# Altium schematic symbol library CON_DIVERSOS.SchLib: 77 symbols (part 1 of 4)
Pins are listed as number, name and electrical type; pins without a type are passive.

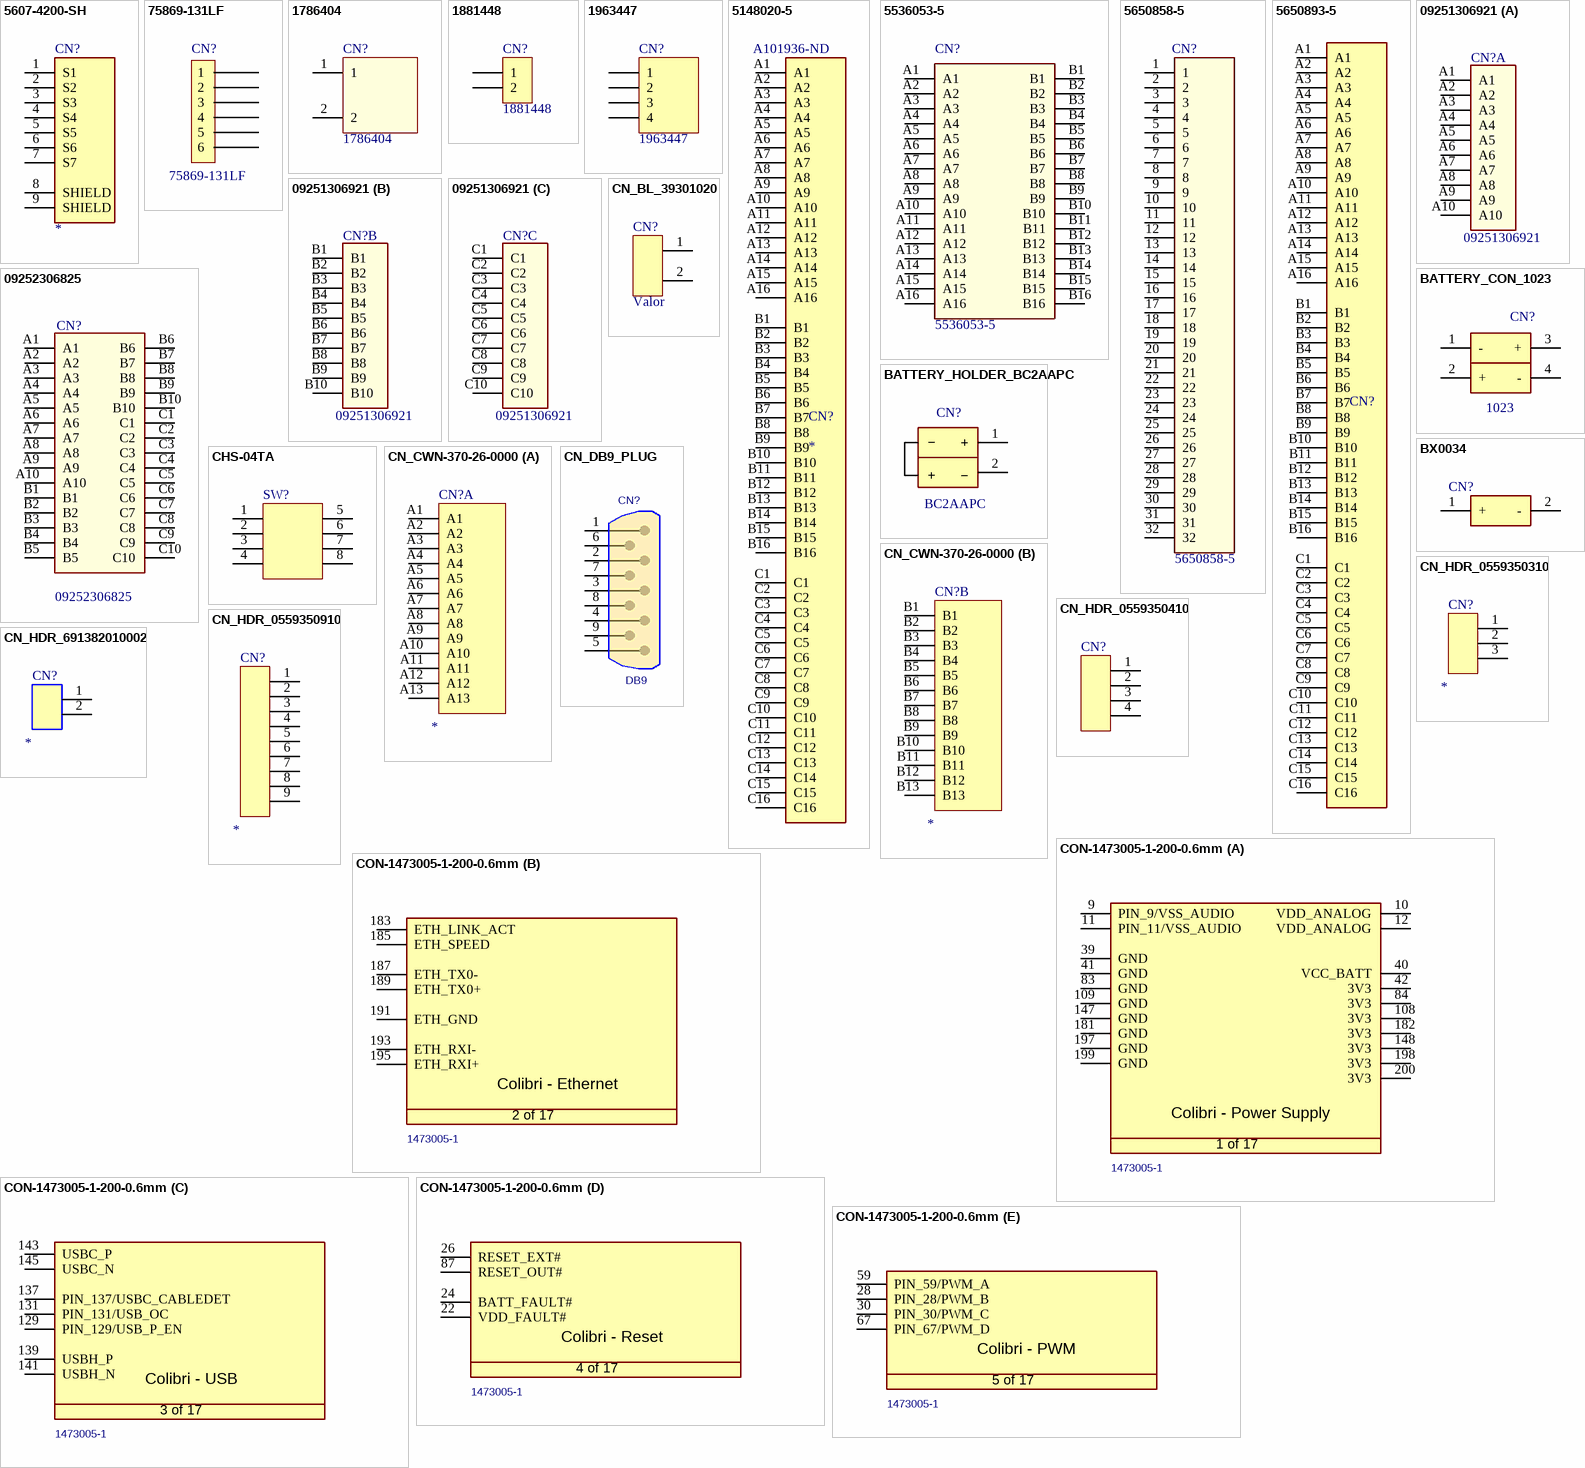
[diagram p0: symbols 5607-4200-SH to CON-1473005-1-200-0.6mm]

## 5607-4200-SH
designator CN?
7 Position SATA Plug Connector Solder Surface Mount, Right Angle; MP: 5607-4200-SH; MF: 3M; Gender: Male; Connector Type: Plug,SATA; Number of Ports: 1; Current Rating: 1.5A; Number of Positions: 7; Insulation Resistance: 1GR; Pitch: 1.27mm; Package: None; Availability: Unavailable; Price: None; Value: *; SnapEDA_Link: https://www.snapeda.com/parts/5607-4200-SH/3M%20%28TC%29/view-part/553032/?ref=snap; Supplier 1: Digi-Key; Supplier Part Number 1: 3M5561-ND; Manufacturer: 3M; Manufacturer Part Number: 5607-4200-SH; Stock 1: 7259; Pricing 1: 1=0,95000, 10=0,83600, 25=0,78720, 50=0,75440, 100=0,72160, 250=0,65600, 500=0,59040, 1000=0,52480, 2500=0,47560 (USD); RoHS: Yes; Mount: Surface Mount; Housing Material: Thermoplastic; Contact Material: Copper Alloy; Contact Plating: Gold; Housing Color: Black; Color: Black; Number of Terminals: 7; Min Operating Temperature: -40°C; Max Operating Temperature: 85°C; Orientation: Right Angle; Termination: Solder; Package Quantity: 3000; Packaging: Tray; Number of Contacts: 7; Number of Rows: 1; Max Current Rating: 1.5A; Length: 17.46mm; Depth: 11.5mm; REACH SVHC: Unknown; Flammability Rating: UL94 V-0; Lead Free: Lead Free; ComponentLink1URL: https://datasheet.ciiva.com/1100/cd2108-1100208.pdf?src-supplier=Newark; ComponentLink1Description: https://datasheet.ciiva.com/1100/cd2108-1100208.pdf?src-supplier=Newark; ComponentLink2URL: https://datasheet.ciiva.com/3955/mediawebserver5-3955063.pdf?src-supplier=Arrow; ComponentLink2Description: https://datasheet.ciiva.com/3955/mediawebserver5-3955063.pdf?src-supplier=Arrow; ComponentLink3URL: https://datasheet.ciiva.com/16971/70253724-16971589.pdf?src-supplier=Allied+Electronics; ComponentLink3Description: https://datasheet.ciiva.com/16971/70253724-16971589.pdf?src-supplier=Allied+Electronics
footprint 3M_5607-4200-SH
pins: 1 S1, 2 S2, 3 S3, 4 S4, 5 S5, 6 S6, 7 S7, 8 SHIELD, 9 SHIELD

## 75869-131LF
designator CN?  value 75869-131LF
CONN HEADER VERT 6POS 2.54MM; Manufacturer: Amphenol FCI; Fabricante: Amphenol ICC (FCI); Number of Contacts: 6; Max Current Rating: 2A; Current Rating: 3A; Voltage Rating: 500V; Connector Type: Male Pin; Gender: Male; Contact Post Length: 3.05mm; Row Spacing: 0.1inch; ComponentLink1Description: LOJA; ComponentLink1URL: https://www.digikey.com/products/en?keywords=75869-131LF; ComponentLink2Description: DATASHEET; ComponentLink2URL: https://cdn.amphenol-icc.com/media/wysiwyg/files/drawing/75869.pdf; Footprint: Through Hole; MPN: 75869-131LF; Supplier 1: Digi-Key; Supplier Part Number 1: 609-2845-ND; Manufacturer Part Number: 75869-131LF; Stock 1: 14575; Pricing 1: 1=0,77000, 10=0,71800, 100=0,55040, 500=0,47860, 1000=0,39485, 5000=0,34699, 10000=0,32306 (USD); RoHS: Yes; Mount: Through Hole; Contact Plating: Gold,GXT; Color: Blue; Housing Color: Blue; Housing Material: Thermoplastic; Contact Material: Bronze,Copper Alloy; Min Operating Temperature: -65°C; Max Operating Temperature: 125°C; Termination: Solder; Number of Rows: 2; Contact Gender: Male; Package Quantity: 100; Orientation: Straight; Number of Positions: 6; Max Voltage Rating (AC): 500V; Packaging: Rail/Tube; Length: 14.83mm; Height: 27.2mm; Pitch: 2.54mm; Contact Mating Length: 0.236inch; Depth: 9.55mm; Radiation Hardening: No; Lead Free: Lead Free; REACH SVHC: No SVHC; ComponentLink3URL: https://datasheet.ciiva.com/11748/0900766b80d79252-11748151.pdf?src-supplier=RSComponents; ComponentLink3Description: https://datasheet.ciiva.com/11748/0900766b80d79252-11748151.pdf?src-supplier=RSComponents; ComponentLink4URL: https://datasheet.ciiva.com/22644/1688107-22644798.pdf?src-supplier=Element14; ComponentLink4Description: https://datasheet.ciiva.com/22644/1688107-22644798.pdf?src-supplier=Element14; ComponentLink5URL: https://datasheet.ciiva.com/16656/75869-16656678.pdf?src-supplier=Avnet+Europe; ComponentLink5Description: https://datasheet.ciiva.com/16656/75869-16656678.pdf?src-supplier=Avnet+Europe; ComponentLink6URL: https://datasheet.ciiva.com/5722/75869-5722919.pdf?src-supplier=Farnell; ComponentLink6Description: https://datasheet.ciiva.com/5722/75869-5722919.pdf?src-supplier=Farnell; ComponentLink7URL: https://datasheet.ciiva.com/9465/75869-9465975.pdf?src-supplier=Avnet; ComponentLink7Description: https://datasheet.ciiva.com/9465/75869-9465975.pdf?src-supplier=Avnet; ComponentLink8URL: https://datasheet.ciiva.com/719/75869-719692.pdf?src-supplier=Digi-Key; ComponentLink8Description: https://datasheet.ciiva.com/719/75869-719692.pdf?src-supplier=Digi-Key; ComponentLink9URL: https://datasheet.ciiva.com/8046/75869-8046653.pdf?src-supplier=Element14; ComponentLink9Description: https://datasheet.ciiva.com/8046/75869-8046653.pdf?src-supplier=Element14
footprint 75869-131LF
pins: 1, 2, 3, 4, 5, 6

## 1786404
designator CN?
2 Position Terminal Block Header, Female Sockets 0.200" (5.08mm) 90°, Right Angle  Through Hole; Manufacturer 1: Phoenix Contact; Description 1: Pluggable Terminal Blocks 2 Pos 5.08mm pitch Thru Hole Invert Hdr; Number of Positions Per Level: 2; Number of Levels: 1; Current: 10A; Voltage: 300V; Current Rating: 12A; Voltage Rating: 320V; Connector Type: Socket; Approvals: UL,CSA,VDE,CB; Supplier 1: Digi-Key; Manufacturer Part Number 1: 1786404; Stock 1: 482; Pricing 1: 1=2,22000, 10=2,15700, 50=2,01600, 100=1,85470, 250=1,71360, 500=1,63298, 1000=1,53217 (USD); RoHS: Yes; Mount: Through Hole; Weight: 5.78493oz; Contact Material: Tin; Color: Green; Contact Plating: Tin; Housing Material: Polyamide; Housing Color: Green; Package Quantity: 50; Packaging: Bulk; Termination: Solder; Number of Rows: 1; Number of Poles: 2; Number of Positions: 2; Number of Contacts: 2; Max Current Rating: 12A; Orientation: Right Angle; Type: Integrated Circuit (IC); Length: 12.16mm; Height: 13.7mm; Pitch: 5.08mm; Width: 19mm; Depth: 19mm; Flammability Rating: UL94 V-0; Lead Free: Lead Free; ComponentLink1URL: https://datasheet.ciiva.com/16096/1786404-16096800.pdf?src-supplier=Onlinecomponents.com; ComponentLink1Description: https://datasheet.ciiva.com/16096/1786404-16096800.pdf?src-supplier=Onlinecomponents.com; ComponentLink2URL: https://datasheet.ciiva.com/11748/0900766b800b6097-11748807.pdf?src-supplier=RSComponents; ComponentLink2Description: https://datasheet.ciiva.com/11748/0900766b800b6097-11748807.pdf?src-supplier=RSComponents; ComponentLink3URL: https://datasheet.ciiva.com/6747/1786404-6747449.pdf?src-supplier=Digi-Key; ComponentLink3Description: https://datasheet.ciiva.com/6747/1786404-6747449.pdf?src-supplier=Digi-Key; ComponentLink4URL: https://datasheet.ciiva.com/29209/567660-da-01-de-grundgehaeuse-1786404-50-st-29209089.pdf?src-supplier=Conrad; ComponentLink4Description: https://datasheet.ciiva.com/29209/567660-da-01-de-grundgehaeuse-1786404-50-st-29209089.pdf?src-supplier=Conrad; Supplier Part Number 1: 277-5986-ND; Value: 1786404
pins: 1, 2

## 1881448
designator CN?
TERM BLOCK HDR 2POS 90DEG 2.5MM; Manufacturer: Phoenix Contact; Connector Type: Plug; Number of Positions: 2; Current Rating: 4A; Number of Levels: 1; Voltage: 125V; Voltage Rating: 32V; Wire Gauge (Max): 20AWG; Wire Gauge (Min): 26AWG; Approvals: UL,VDE,EN; ComponentLink1Description: datasheet; ComponentLink1URL: https://www.digikey.com/htmldatasheets/production/170627/0/0/1/1881448.html; ComponentLink2Description: Link with best prices; ComponentLink2URL: https://www.findchips.com/search/1881448; Supplier 1: Digi-Key; Supplier Part Number 1: 277-1441-ND; Manufacturer Part Number: 1881448; Stock 1: 647; Pricing 1: 1=0,97000, 10=0,94400, 50=0,88200, 100=0,81140, 250=0,74972, 500=0,71442, 1000=0,67032 (USD); RoHS: Yes; Mount: Through Hole; Weight: 0.017637oz; Contact Material: Tin; Contact Plating: Tin; Housing Color: Green; Housing Material: Polyamide; Color: Green; Insulation Material: Nylon; Termination: Solder; Package Quantity: 50; Packaging: Bulk; Orientation: Right Angle; Number of Positions Per Level: 2; Current: 4A; Number of Contacts: 2; Number of Poles: 2; Number of Rows: 1; Max Current Rating: 4A; Contact Gender: Male; Length: 6.9mm; Height: 8.1mm; Width: 11.9mm; Pitch: 2.5mm; Depth: 10.1mm; Lead Free: Lead Free; Flammability Rating: UL94 V-0; ComponentLink3URL: https://datasheet.ciiva.com/11747/0900766b800330ce-11747235.pdf?src-supplier=RSComponents; ComponentLink3Description: https://datasheet.ciiva.com/11747/0900766b800330ce-11747235.pdf?src-supplier=RSComponents; ComponentLink4URL: https://datasheet.ciiva.com/796/1881448-796679.pdf?src-supplier=Digi-Key; ComponentLink4Description: https://datasheet.ciiva.com/796/1881448-796679.pdf?src-supplier=Digi-Key; ComponentLink5URL: https://datasheet.ciiva.com/16097/1881448-16097305.pdf?src-supplier=Onlinecomponents.com; ComponentLink5Description: https://datasheet.ciiva.com/16097/1881448-16097305.pdf?src-supplier=Onlinecomponents.com; ComponentLink6URL: https://datasheet.ciiva.com/29210/569293-da-01-de-grundgehaeuse-1881448-50-st-29210515.pdf?src-supplier=Conrad; ComponentLink6Description: https://datasheet.ciiva.com/29210/569293-da-01-de-grundgehaeuse-1881448-50-st-29210515.pdf?src-supplier=Conrad
footprint 1881448 (TERM BLOCK HDR 2POS 90DEG 2.5MM)
pins: 1, 2

## 1963447
designator CN?
TERM BLOCK HDR 4POS 90DEG 2.5MM; Manufacturer: Phoenix Contact; Number of Contacts: 4; Connector Type: Plug; Current Rating: 4A; Voltage Rating: 32V; Voltage: 125V; Number of Levels: 1; ComponentLink1Description: Datasheet; ComponentLink1URL: https://www.digikey.com/htmldatasheets/production/1675892/0/0/1/micro-combicon-headers.html; ComponentLink2Description: link with best prices; ComponentLink2URL: https://www.findchips.com/search/1963447; Supplier 1: Digi-Key; Supplier Part Number 1: 277-14472-ND; Manufacturer Part Number: 1963447; Stock 1: 379; Pricing 1: 1=1,80000, 10=1,75400, 50=1,63900, 100=1,50790, 250=1,39316, 500=1,32760, 1000=1,24564 (USD); RoHS: Yes; Mount: Through Hole; Weight: 0.123812oz; Contact Plating: Tin; Contact Material: Tin; Color: Black; Housing Color: Black; Housing Material: Polyamide; Termination: Solder; Package Quantity: 50; Current: 4A; Number of Rows: 1; Max Current Rating: 4A; Orientation: Right Angle; Packaging: Bulk; Number of Positions: 4; Number of Positions Per Level: 4; Length: 11.9mm; Height: 11.9mm; Pitch: 2.5mm; Depth: 10.1mm; Width: 11.9mm; Flammability Rating: UL94 V-0; ComponentLink3URL: https://datasheet.ciiva.com/29208/566945-da-01-de-grundgehaeuse-1963447-50-st-29208218.pdf?src-supplier=Conrad; ComponentLink3Description: https://datasheet.ciiva.com/29208/566945-da-01-de-grundgehaeuse-1963447-50-st-29208218.pdf?src-supplier=Conrad; ComponentLink4URL: https://datasheet.ciiva.com/29681/microcombiconheaders-29681992.pdf?src-supplier=Digi-Key; ComponentLink4Description: https://datasheet.ciiva.com/29681/microcombiconheaders-29681992.pdf?src-supplier=Digi-Key
footprint 1963447 (TERM BLOCK HDR 4POS 90DEG 2.5MM)
pins: 1, 2, 3, 4

## 5148020-5
designator CN?  Supplier Part Number 1: A101936-ND  (hidden comment: 5148020-5)
PIN EURO C/2 48 POS 104; Number_of_Positions: 48; Product_Type: Connector; Centerline_Pitch: 2.54 mm[.1 in]; MF: TE Connectivity; Connector System: Board-to-Board; Connector Type: Plug,Connector,Pin; Make First / Break Last: No; Mating Alignment: Yes (With); Mating Retention: No (Without); PCB Mount Retention: With; PCB Mounting Orientation: Right Angle; Shielding: Unshielded; Gender: Male; Max Voltage Rating (AC): 250V; Row Spacing: 2.54mm; PCB Thickness: 5.41mm; Tail Length: 3mm; Contact Post Length: 2.65mm; Digi-Key_Part_Number: A101936-ND; TE_purchase_URL: https://www.te.com/usa-en/product-5148020-5.html?te_bu=Cor&te_type=disp&te_campaign=seda_glo_cor-seda-global-disp-prtnr-fy19-seda-model-bom-cta_sma-317_1&elqCampaignId=32493; Value: *; MP: 5148020-5; Package: None; SnapEDA_Link: https://www.snapeda.com/parts/5148020-5/TE%20Connectivity%20AMP%20Connectors/view-part/489557/?ref=snap; EU_RoHS_Compliance: Compliant; Digi-Key_Purchase_URL: https://www.digikey.com/product-detail/en/te-connectivity-amp-connectors/5148020-5/A101936-ND/2268186?utm_source=snapeda&utm_medium=aggregator&utm_campaign=symbol; Supplier 1: Digi-Key; Manufacturer: TE Connectivity; Manufacturer Part Number: 5148020-5; RoHS: Yes; Category: DIN 41612 Connectors; Pricing 1: 1=8,38000, 10=8,03000, 25=7,33200, 50=6,98280, 100=6,63360, 250=5,93536, 500=5,58622, 1000=4,88795, 2500=4,64355 (USD); Mount: Through Hole; Insulation Material: Polymer; Housing Material: Polymer; Contact Material: Copper Alloy; Contact Plating: Tin; Housing Color: Grey; Min Operating Temperature: -55°C; Max Operating Temperature: 125°C; Number of Rows: 3; Packaging: Tray; Number of Positions: 48; Termination: Solder; Number of Signal Positions: 48; PCB Mount Alignment: Yes (With); Package Quantity: 30; Orientation: Right Angle; Number of Contacts: 48; Length: 53.34mm; Height: 12.62mm; Pitch: 2.54mm; Insulation Diameter: 2.54mm; Depth: 12.62mm; Flammability Rating: UL94 V-0; ELV: Compliant; ComponentLink1URL: https://datasheet.ciiva.com/377/eng-cd-5148020-o1-377803.pdf?src-supplier=Digi-Key; ComponentLink1Description: https://datasheet.ciiva.com/377/eng-cd-5148020-o1-377803.pdf?src-supplier=Digi-Key; ComponentLink2URL: https://datasheet.ciiva.com/1436/1652762-1436912.pdf?src-supplier=Element14; ComponentLink2Description: https://datasheet.ciiva.com/1436/1652762-1436912.pdf?src-supplier=Element14; ComponentLink3URL: https://datasheet.ciiva.com/1446/1652762-1446112.pdf?src-supplier=Farnell; ComponentLink3Description: https://datasheet.ciiva.com/1446/1652762-1446112.pdf?src-supplier=Farnell; Comment_1: *
footprint 5148020-5 (Conn DIN 41612 M 48 POS 2.54mm Solder RA Thru-Hole Tray)
pins: A1, A2, A3, A4, A5, A6, A7, A8, A9, A10, A11, A12, A13, A14, A15, A16, B1, B2, B3, B4, B5, B6, B7, B8, B9, B10, B11, B12, B13, B14, B15, B16, C1, C2, C3, C4, C5, C6, C7, C8, C9, C10, C11, C12, C13, C14, C15, C16

## 5536053-5
designator CN?
32 Position Din Connector Plug, Male Pins Gold Through Hole, Right Angle; Manufacturer: TE Connectivity; FABRICANTE: TE Connectivity AMP Connectors; Underplate Material: Nickel; Number of Contacts: 32; Connector Type: Plug,Connector,Pin; Max Voltage Rating (AC): 250V; Connector System: Board-to-Board; Mating Alignment: Yes (With); Mating Retention: No (Without); Number of Columns: 16; PCB Mount Retention: With; Current Rating: 1.5A; Contact Resistance: 15mR; Plating Thickness: 0.76um; Make First / Break Last: No; Shielding: Unshielded; Max Current Rating: 1A; Pitch: 2.54mm; Tail Length: 2.64mm; Row Spacing: 0.1inch; PCB Thickness: 0.062inch; Value: 536053-5; ComponentLink1Description: LOJA; ComponentLink1URL: https://www.digikey.com/products/en?mpart=536053-5&v=17; ComponentLink2Description: DATASHEET; ComponentLink2URL: https://www.te.com/commerce/DocumentDelivery/DDEController?Action=srchrtrv&DocNm=536053&DocType=Customer+Drawing&DocLang=English; MPN: 536053-5; FOOTPRINT: 536053-5; Supplier 1: Digi-Key; Supplier Part Number 1: A32808-ND; Manufacturer Part Number: 5536053-5; Stock 1: 543; Pricing 1: 1=6,12000, 10=5,86000, 25=5,35080, 50=5,09600, 100=4,84130, 250=4,33168, 500=4,07686, 1000=3,56726, 2500=3,38889 (USD); RoHS: Yes; Mount: Through Hole,Surface Mount; Housing Material: Polymer; Insulation Material: Polymer; Contact Material: Copper Alloy; Contact Plating: Gold,Tin; Housing Color: Grey; Min Operating Temperature: -55°C; Max Operating Temperature: 125°C; Termination: Solder; Number of Rows: 2; Number of Positions: 32; Gender: Male; Package Quantity: 40; Packaging: Tray; Orientation: Right Angle; PCB Mount Alignment: No (Without); PCB Mounting Orientation: Right Angle; Sealable: No (Without); Max Voltage Rating (DC): 250V; Voltage Rating: 250V; Length: 2.1inch; Height: 0.497inch; Width: 8.56mm; Depth: 12.65mm; Contact Mating Length: 0.164inch; Flammability Rating: UL94 V-0; REACH SVHC: Unknown; ComponentLink3URL: https://datasheet.ciiva.com/5657/ng-cd-5536053-o1-72018-5657940.pdf?src-supplier=Mouser; ComponentLink3Description: https://datasheet.ciiva.com/5657/ng-cd-5536053-o1-72018-5657940.pdf?src-supplier=Mouser; ComponentLink4URL: https://datasheet.ciiva.com/1482/1649872-1482054.pdf?src-supplier=Newark; ComponentLink4Description: https://datasheet.ciiva.com/1482/1649872-1482054.pdf?src-supplier=Newark; ComponentLink5URL: https://datasheet.ciiva.com/377/eng-cd-5536053-o1-377639.pdf?src-supplier=Digi-Key; ComponentLink5Description: https://datasheet.ciiva.com/377/eng-cd-5536053-o1-377639.pdf?src-supplier=Digi-Key; ComponentLink6URL: https://datasheet.ciiva.com/29702/1974528-29702908.pdf?src-supplier=Jameco; ComponentLink6Description: https://datasheet.ciiva.com/29702/1974528-29702908.pdf?src-supplier=Jameco; ComponentLink7URL: https://datasheet.ciiva.com/30057/55360535-30057548.pdf?src-supplier=Onlinecomponents.com; ComponentLink7Description: https://datasheet.ciiva.com/30057/55360535-30057548.pdf?src-supplier=Onlinecomponents.com; ComponentLink8URL: https://datasheet.ciiva.com/15180/getdatasheetpartid-87158-15180412.pdf?src-supplier=Verical; ComponentLink8Description: https://datasheet.ciiva.com/15180/getdatasheetpartid-87158-15180412.pdf?src-supplier=Verical
footprint 5536053-5 (CONN DIN PLUG 32POS PCB RA GOLD)
pins: A1, A2, A3, A4, A5, A6, A7, A8, A9, A10, A11, A12, A13, A14, A15, A16, B1, B2, B3, B4, B5, B6, B7, B8, B9, B10, B11, B12, B13, B14, B15, B16

## 5650858-5
designator CN?
32 Position Din Connector Receptacle, Female Sockets Gold Through Hole; Manufacturer: TE Connectivity; FABRICANTE: TE Connectivity AMP Connectors; Underplate Material: Nickel; Number of Contacts: 32; Connector System: Board-to-Board; Mating Alignment: Yes (With); Mating Retention: No (Without); Number of Columns: 16; PCB Mount Retention: Without; PCB Mounting Orientation: Vertical; Contact Current Rating: 1.5A; Connector Type: Receptacle,Connector,Socket; Contact Resistance: 15mR; Max Voltage Rating (AC): 250V; Pitch: 2.54mm; Tail Length: 0.18inch; PCB Thickness: 0.062inch; Row Spacing: 0.1inch; Value: 5650858-5; MPN: 5650858-5; FOOTPRINT: 5650858-5; ComponentLink1Description: LOJA; ComponentLink1URL: https://www.digikey.com/product-detail/en/te-connectivity-amp-connectors/5650858-5/A32829-ND/1091289; ComponentLink2Description: DATASHEET; ComponentLink2URL: https://www.te.com/commerce/DocumentDelivery/DDEController?Action=srchrtrv&DocNm=5650858&DocType=Customer+Drawing&DocLang=English; Supplier 1: Digi-Key; Supplier Part Number 1: A32829-ND; Manufacturer Part Number: 5650858-5; Stock 1: 97; Pricing 1: 1=5,23000, 10=5,01700, 25=4,59920, 50=4,39020, 100=4,18120, 250=3,65852, 500=3,55398, 1000=3,03134, 2500=2,82228 (USD); RoHS: Yes; Mount: Through Hole; Insulation Material: Polymer; Housing Material: Polymer; Contact Material: Copper Alloy; Contact Plating: Gold,Tin; Housing Color: Grey; Color: Grey; Min Operating Temperature: -67°C; Max Operating Temperature: 221°C; Termination: Solder; Number of Rows: 2; PCB Mount Alignment: No (Without); Sealable: No (Without); Number of Positions: 32; Package Quantity: 40; Packaging: Tray; Gender: Receptacle; Orientation: Straight; Voltage Rating (DC): 250V; Max Voltage Rating (DC): 250V; Current Rating: 1.5A; Voltage Rating: 250V; Length: 2.1inch; Height: 11.5mm; Width: 0.317inch; Radiation Hardening: No; Flammability Rating: UL94 V-0; ELV: Compliant; Lead Free: Lead Free; REACH SVHC: Unknown; ComponentLink3URL: https://datasheet.ciiva.com/377/eng-cd-5650858-o-377601.pdf?src-supplier=Digi-Key; ComponentLink3Description: https://datasheet.ciiva.com/377/eng-cd-5650858-o-377601.pdf?src-supplier=Digi-Key; ComponentLink4URL: https://datasheet.ciiva.com/5658/ng-cd-5650858-o-72337-5658073.pdf?src-supplier=Mouser; ComponentLink4Description: https://datasheet.ciiva.com/5658/ng-cd-5650858-o-72337-5658073.pdf?src-supplier=Mouser; ComponentLink5URL: https://datasheet.ciiva.com/1482/1649952-1482076.pdf?src-supplier=Newark; ComponentLink5Description: https://datasheet.ciiva.com/1482/1649952-1482076.pdf?src-supplier=Newark; ComponentLink6URL: https://datasheet.ciiva.com/30062/56508585-30062237.pdf?src-supplier=Onlinecomponents.com; ComponentLink6Description: https://datasheet.ciiva.com/30062/56508585-30062237.pdf?src-supplier=Onlinecomponents.com; ComponentLink7URL: https://datasheet.ciiva.com/1437/1661275-1437012.pdf?src-supplier=Element14; ComponentLink7Description: https://datasheet.ciiva.com/1437/1661275-1437012.pdf?src-supplier=Element14; ComponentLink8URL: https://datasheet.ciiva.com/16398/eng-cd-5650858-o-16398391.pdf?src-supplier=Future+Electronics; ComponentLink8Description: https://datasheet.ciiva.com/16398/eng-cd-5650858-o-16398391.pdf?src-supplier=Future+Electronics
footprint *TE_5650858-5
pins: 1, 2, 3, 4, 5, 6, 7, 8, 9, 10, 11, 12, 13, 14, 15, 16, 17, 18, 19, 20, 21, 22, 23, 24, 25, 26, 27, 28, 29, 30, 31, 32

## 5650893-5
designator CN?  (value not drawn)
48 Position Din Connector Receptacle, Female Sockets Gold Through Hole, Right Angle; MPN: 5148020-5; FABRICANTE: TE Connectivity; Number of Contacts: 48; Connector System: Board-to-Board; Plating Thickness: 2.54um; Mating Alignment: No (Without); Number of Columns: 16; PCB Mount Retention: With; Contact Current Rating: 1.5A; Connector Type: Receptacle,Connector,Socket; Pitch: 2.54mm; PCB Thickness: 0.062inch; Row Spacing: 0.1inch; Tail Length: 2.79mm; Value: *; ComponentLink1Description: LOJA; ComponentLink1URL: https://www.digikey.com/product-detail/en/te-connectivity-amp-connectors/5650893-5/A101945-ND/1121949; Footprint: 5650893-5; Supplier 1: Digi-Key; Supplier Part Number 1: A101945-ND; Manufacturer: TE Connectivity; Manufacturer Part Number: 5650893-5; Stock 1: 250; Pricing 1: 1=5,22000, 10=5,01000, 25=4,59240, 50=4,38360, 100=4,17480, 250=3,65300, 500=3,54862, 1000=3,02676, 2500=2,81802 (USD); RoHS: Yes; Mount: Through Hole; Insulation Material: Polymer; Housing Color: Grey; Housing Material: Polymer; Contact Plating: Gold,Tin; Contact Material: Copper Alloy; Color: Grey; Min Operating Temperature: -67°C; Max Operating Temperature: 221°C; Number of Rows: 3; Termination: Solder; Gender: Receptacle; Mating Retention: No (Without); PCB Mount Alignment: No (Without); PCB Mounting Orientation: Right Angle; Orientation: Right Angle; Package Quantity: 28; Packaging: Box; Number of Positions: 48; Length: 53.24mm; Height: 10.49mm; Contact Post Length: 2.79mm; Radiation Hardening: No; Flammability Rating: UL94 V-0; Lead Free: Lead Free; ELV: Compliant; ComponentLink2URL: https://datasheet.ciiva.com/1482/eng-cd-5650893-o-1482137.pdf?src-supplier=Newark; ComponentLink2Description: https://datasheet.ciiva.com/1482/eng-cd-5650893-o-1482137.pdf?src-supplier=Newark; ComponentLink3URL: https://datasheet.ciiva.com/377/eng-cd-5650893-o-377795.pdf?src-supplier=Digi-Key; ComponentLink3Description: https://datasheet.ciiva.com/377/eng-cd-5650893-o-377795.pdf?src-supplier=Digi-Key; ComponentLink4URL: https://datasheet.ciiva.com/16357/5650893-5-16357910.pdf?src-supplier=Future+Electronics; ComponentLink4Description: https://datasheet.ciiva.com/16357/5650893-5-16357910.pdf?src-supplier=Future+Electronics; ComponentLink5URL: https://datasheet.ciiva.com/15180/getdatasheetpartid-292471-15180777.pdf?src-supplier=Verical; ComponentLink5Description: https://datasheet.ciiva.com/15180/getdatasheetpartid-292471-15180777.pdf?src-supplier=Verical; ComponentLink6URL: https://datasheet.ciiva.com/1437/eng-cd-5650893-o-1437021.pdf?src-supplier=Element14; ComponentLink6Description: https://datasheet.ciiva.com/1437/eng-cd-5650893-o-1437021.pdf?src-supplier=Element14
footprint 5650893-5 (CONN DIN RCPT 48POS PCB RA GOLD)
pins: A1, A2, A3, A4, A5, A6, A7, A8, A9, A10, A11, A12, A13, A14, A15, A16, B1, B2, B3, B4, B5, B6, B7, B8, B9, B10, B11, B12, B13, B14, B15, B16, C1, C2, C3, C4, C5, C6, C7, C8, C9, C10, C11, C12, C13, C14, C15, C16

## 09251306921
designator CN?
30 Position Din Connector Header, Male Pins Gold Through Hole, Right Angle; Manufacturer: HARTING Technology; FABRICANTE: HARTING; Number of Positions: 30; Test Voltage: 1kV; Contact Resistance: 15mR; Max Current Rating: 2A; Tail Length: 3mm; Pitch: 2.54mm; ComponentLink1Description: LOJA; ComponentLink1URL: https://www.digikey.com/product-detail/en/harting/09251306921/1195-1877-ND/3180460; ComponentLink2Description: DATASHEET; ComponentLink2URL: http://www.harting.com/uploads/tx_news/pages_din41612_3b3c_news2009_e.pdf; MPN: 09251306921; FOOTPRINT: 09251306921; VALUE: 09251306921; Supplier 1: Digi-Key; Supplier Part Number 1: 1195-1877-ND; Manufacturer Part Number: 09251306921; Stock 1: 1294; Pricing 1: 1=3,50000, 10=3,36000, 25=3,08000, 50=2,94000, 100=2,80000, 250=2,45000, 500=2,38000, 1000=2,03000, 2500=1,89000 (USD); RoHS: Yes; Mount: Through Hole; Housing Material: Thermoplastic; Insulation Material: Glass; Contact Material: Copper Alloy,Nickel,Gold; Contact Plating: Gold; Min Operating Temperature: -55°C; Max Operating Temperature: 125°C; Orientation: Right Angle; Termination: Solder; Number of Contacts: 30; Package Quantity: 20; Number of Rows: 3; Packaging: Bulk; Gender: Male; Current Rating: 2A; Length: 38.12mm; Depth: 17.72mm; Flammability Rating: UL94 V-0; REACH SVHC: No SVHC; ComponentLink3URL: https://datasheet.ciiva.com/5658/tb-0925130x921-bl01-r33510-70813-5658336.pdf?src-supplier=Mouser; ComponentLink3Description: https://datasheet.ciiva.com/5658/tb-0925130x921-bl01-r33510-70813-5658336.pdf?src-supplier=Mouser; ComponentLink4URL: https://datasheet.ciiva.com/14632/70280341-14632666.pdf?src-supplier=Allied+Electronics; ComponentLink4Description: https://datasheet.ciiva.com/14632/70280341-14632666.pdf?src-supplier=Allied+Electronics; ComponentLink5URL: https://datasheet.ciiva.com/48457/0925130x921-eng-tds-48457274.pdf?src-supplier=Distrelec; ComponentLink5Description: https://datasheet.ciiva.com/48457/0925130x921-eng-tds-48457274.pdf?src-supplier=Distrelec
footprint 09251306921 (CONN DIN HDR 30POS PCB RA GOLD)
part A pins: A1, A2, A3, A4, A5, A6, A7, A8, A9, A10
part B pins: B1, B2, B3, B4, B5, B6, B7, B8, B9, B10
part C pins: C1, C2, C3, C4, C5, C6, C7, C8, C9, C10

## 09252306825
designator CN?
30 Position Din Connector Receptacle, Female Sockets  Through Hole; Manufacturer: HARTING Technology; FABRICANTE: HARTING; Current Rating: 2A; Contact Resistance: 15mR; Number of Positions: 30; Tail Length: 4.5mm; Pitch: 2.54mm; VALUE: 09252306825; FOOTPRINT: 09252306825; MPN: 09252306825; ComponentLink1Description: LOJA; ComponentLink1URL: https://www.digikey.com/product-detail/en/harting/09252306825/1195-1881-ND/3180464; ComponentLink2Description: DATASHEET; ComponentLink2URL: http://www.harting.com/uploads/tx_news/pages_din41612_3b3c_news2009_e.pdf; Supplier 1: Digi-Key; Supplier Part Number 1: 1195-1881-ND; Manufacturer Part Number: 09252306825; Stock 1: 452; Pricing 1: 1=4,58000, 10=4,39200, 25=4,02600, 50=3,84300, 100=3,66000, 250=3,20252, 500=3,11100, 1000=2,65350, 2500=2,47050 (USD); RoHS: Yes; Mount: Through Hole; Housing Material: Thermoplastic; Contact Material: Copper Alloy; Insulation Material: Glass; Contact Plating: Gold; Min Operating Temperature: -55°C; Max Operating Temperature: 125°C; Package Quantity: 20; Number of Rows: 3; Gender: Female; Max Current Rating: 2A; Packaging: Bulk; Orientation: Straight; Termination: Solder; Connector Type: Receptacle; Number of Contacts: 30; Length: 39.8mm; Depth: 10.6mm; Flammability Rating: UL94 V-0; ComponentLink3URL: https://datasheet.ciiva.com/5658/tb-0925230x825-bl01-r35608-44441-5658290.pdf?src-supplier=Mouser; ComponentLink3Description: https://datasheet.ciiva.com/5658/tb-0925230x825-bl01-r35608-44441-5658290.pdf?src-supplier=Mouser; ComponentLink4URL: https://datasheet.ciiva.com/11731/0900766b80ddab96-11731874.pdf?src-supplier=RSComponents; ComponentLink4Description: https://datasheet.ciiva.com/11731/0900766b80ddab96-11731874.pdf?src-supplier=RSComponents
footprint 09252306825 (CONN DIN RCPT 30POS PCB)
pins: A1, A2, A3, A4, A5, A6, A7, A8, A9, A10, B1, B2, B3, B4, B5, B6, B7, B8, B9, B10, C1, C2, C3, C4, C5, C6, C7, C8, C9, C10

## BATTERY_CON_1023
designator CN?, comment 1023
BATTERY HOLDER AAA 2 CELL PC PIN; Fabricante: Keystone Electronics; Body Material: Polypropylene,Nylon; Number of Cells: 2; Wire/Cable Gauge: 26AWG; ComponentLink1Description: LOJA; ComponentLink1URL: https://www.digikey.com/product-detail/en/keystone-electronics/1023/36-1023-ND/2745667; ComponentLink2Description: DATASHEET; ComponentLink2URL: file:///C:/Users/Rubens/Downloads/1023%20(1).PDF; Footprint: PCB, Through Hole; MPN: 1023; Value: 1023; Supplier 1: Digi-Key; Supplier Part Number 1: 36-1023-ND; Manufacturer: Keystone Electronics; Manufacturer Part Number: 1023; Stock 1: 1223; Pricing 1: 1=3,84000, 25=3,22600, 100=2,85000, 250=2,72624, 500=2,52002, 1000=2,28001, 2500=1,94310, 5000=1,91000 (USD); RoHS: Yes; Mount: Through Hole,PCB,Surface Mount; Material: Nylon; Contact Material: Stainless Steel; Min Operating Temperature: -50°C; Max Operating Temperature: 145°C; Package Quantity: 25; Packaging: Tray; Termination: Through Hole; Number of Batteries: 2; REACH SVHC: No SVHC; ComponentLink3URL: https://datasheet.ciiva.com/1437/m60p18-1437440.pdf?src-supplier=Newark; ComponentLink3Description: https://datasheet.ciiva.com/1437/m60p18-1437440.pdf?src-supplier=Newark; ComponentLink4URL: https://datasheet.ciiva.com/4642/m60p18-21861-4642592.pdf?src-supplier=Mouser; ComponentLink4Description: https://datasheet.ciiva.com/4642/m60p18-21861-4642592.pdf?src-supplier=Mouser; ComponentLink5URL: https://datasheet.ciiva.com/4/1023-4756.pdf?src-supplier=Digi-Key; ComponentLink5Description: https://datasheet.ciiva.com/4/1023-4756.pdf?src-supplier=Digi-Key
footprint BATTERY_CON_1023 (THM Holder for Dual AAA Batteries P/N 1023)
pins: 1 -, 2 +, 3 +, 4 -

## BATTERY_HOLDER_BC2AAPC
designator CN?, comment BC2AAPC
BATTERY HOLDER AA 2 CELL PC PIN; Manufacturer: Memory Protection Devices; Fabricante: MPD (Memory Protection Devices); Number of Cells: 2; MPN: BC2AAPC; Footprint: PCB, Through Hole; Value: BC2AAPC; Supplier 1: Digi-Key; Supplier Part Number 1: BC2AAPC-ND; Manufacturer Part Number: BC2AAPC; Stock 1: 47083; Pricing 1: 1=1,13000, 10=0,95600, 50=0,84040, 100=0,79210, 250=0,72884, 500=0,68422, 1000=0,63960, 2500=0,58010, 5000=0,53548 (USD); RoHS: Yes; Mount: Through Hole,PCB; Material: Polypropylene; Color: Black; Min Operating Temperature: -10°C; Max Operating Temperature: 100°C; Packaging: Bulk; Package Quantity: 100; Termination: PC Pin; Length: 57.9mm; Height: 14.9mm; Width: 30.5mm; Lead Free: Lead Free; ComponentLink1URL: https://datasheet.ciiva.com/4/bc2aapc-datasheet-4084.pdf?src-supplier=Digi-Key; ComponentLink1Description: https://datasheet.ciiva.com/4/bc2aapc-datasheet-4084.pdf?src-supplier=Digi-Key
footprint BC2AAPC (BATTERY HOLDER AA 2 CELL PC PIN)
pins: 1 +, 2 -

## BX0034
designator CN?
BATTERY HOLDER AAA PC PIN; MPN: BX0034; Fabricante: Bulgin; Value: BX0034; Body Material: Nylon,Glass; Number of Cells: 1; ComponentLink1Description: LOJA; ComponentLink1URL: https://www.digikey.com/product-detail/en/bulgin/BX0034/708-1407-ND/1980765; ComponentLink2Description: Datasheet; ComponentLink2URL: https://www.bulgin.com/products/pub/media/bulgin/data/Battery_holders.pdf; FOOTPRINT: PCB, Through Hole; Supplier 1: Digi-Key; Supplier Part Number 1: 708-1407-ND; Manufacturer: Bulgin; Manufacturer Part Number: BX0034; Stock 1: 0; Pricing 1: 1=4,68000, 10=3,93700, 50=3,45660, 100=3,25500, 250=2,99152, 500=2,80550, 1000=2,61950, 2500=2,37150, 5000=2,13900 (USD); RoHS: Yes; Mount: Through Hole,PCB,Screw,Base; Contact Material: Silver; Contact Plating: Silver,Nickel; Color: Red; Material: Nylon,Glass; Min Operating Temperature: -30°C; Max Operating Temperature: 70°C; Package Quantity: 50; Number of Batteries: 1; Termination: Solder; Height: 17.1mm; Flammability Rating: UL94 V-0; REACH SVHC: No SVHC; ComponentLink3URL: https://datasheet.ciiva.com/1438/308321-1438256.pdf?src-supplier=Newark; ComponentLink3Description: https://datasheet.ciiva.com/1438/308321-1438256.pdf?src-supplier=Newark; ComponentLink4URL: https://datasheet.ciiva.com/11714/0900766b8002dad6-11714723.pdf?src-supplier=RSComponents; ComponentLink4Description: https://datasheet.ciiva.com/11714/0900766b8002dad6-11714723.pdf?src-supplier=RSComponents; ComponentLink5URL: https://datasheet.ciiva.com/3353/06951396-3353143.pdf?src-supplier=Distrelec; ComponentLink5Description: https://datasheet.ciiva.com/3353/06951396-3353143.pdf?src-supplier=Distrelec; ComponentLink6URL: https://datasheet.ciiva.com/4/battholders-2010-4457.pdf?src-supplier=Digi-Key; ComponentLink6Description: https://datasheet.ciiva.com/4/battholders-2010-4457.pdf?src-supplier=Digi-Key; ComponentLink7URL: https://datasheet.ciiva.com/25761/70098999-25761071.pdf?src-supplier=Allied+Electronics; ComponentLink7Description: https://datasheet.ciiva.com/25761/70098999-25761071.pdf?src-supplier=Allied+Electronics
footprint BX0034
pins: 1 +, 2 -

## CHS-04TA
designator SW?  (value not drawn)
Dip Switch SPST 4 Position Surface Mount Slide (Standard) Actuator 100mA 6VDC; Manufacturer: Nidec Copal; Manufacturer Part Number: CHS-04TA; Body Material: Polyphenylene; Throw Configuration: SPST,4PST; Max Voltage Rating (DC): 24V; Number of Positions: 4; Voltage Rating (DC): 6V; Electrical Life: 2000Cycles; Pitch: 0.05inch; Washable: Yes; ComponentLink1Description: Datasheet; ComponentLink1URL: https://www.nidec-copal-electronics.com/e/catalog/switch/chs.pdf; ComponentLink2Description: Link with best prices; ComponentLink2URL: https://www.findchips.com/search/CHS-04TA; Supplier 1: Digi-Key; Supplier Part Number 1: 563-1007-1-ND; Stock 1: 2329; Pricing 1: 1=2,08000, 10=2,02300, 25=1,84000, 100=1,59840, 250=1,44856 (USD); RoHS: Yes; Mount: Surface Mount; Contact Material: Copper Alloy; Contact Plating: Gold; Min Operating Temperature: -40°C; Max Operating Temperature: 85°C; Termination: J-Hook; Packaging: Tape and Reel; Orientation: Vertical; Current Rating: 100mA; Actuator Type: Slide (Standard); Length: 0.26inch; Lead Free: Lead Free; ComponentLink3URL: https://datasheet.ciiva.com/2863/chs-2863620.pdf?src-supplier=Digi-Key; ComponentLink3Description: https://datasheet.ciiva.com/2863/chs-2863620.pdf?src-supplier=Digi-Key; ComponentLink4URL: https://datasheet.ciiva.com/2863/chs-2863621.pdf?src-supplier=Digi-Key; ComponentLink4Description: https://datasheet.ciiva.com/2863/chs-2863621.pdf?src-supplier=Digi-Key; ComponentLink5URL: https://datasheet.ciiva.com/2863/chs-2863622.pdf?src-supplier=Digi-Key; ComponentLink5Description: https://datasheet.ciiva.com/2863/chs-2863622.pdf?src-supplier=Digi-Key
footprint CHS-04TA (Dip Switch SPST 4 Position Surface Mount Slide (Standard) Actuator 100mA 6VDC)
pins: 1, 2, 3, 4, 5, 6, 7, 8

## CN_BL_39301020
designator CN?, comment Valor
CON HEADER R/A 2POS; MPN: 0039301020; Fabricante: Molex; Fooprint: PTH 2PIN R/A; Connector Type: Male Pin; Gender: Male; Number of Positions: 2; Number of Ports: 1; Contact Resistance: 10mR; Pitch: 4.2mm; Row Spacing: 0.165inch; ComponentLink1Description: loja; ComponentLink1URL: https://www.digikey.com/products/en/connectors-interconnects/rectangular-connectors-headers-male-pins/314?k=39-30-1020; ComponentLink2Description: datasheet; ComponentLink2URL: https://www.molex.com/pdm_docs/sd/039301020_sd.pdf; Value: Valor; Supplier 1: Digi-Key; Supplier Part Number 1: WM1351-ND; Manufacturer: Molex; Manufacturer Part Number: 39-30-1020; Stock 1: 16340; Pricing 1: 1=0,57000, 10=0,53000, 100=0,40660, 500=0,35360, 1000=0,29172, 5000=0,25636, 10000=0,23868 (USD); RoHS: Yes; Mount: Through Hole; Contact Material: Brass; Contact Plating: Tin,Copper; Number of Terminals: 2; Housing Material: Nylon; Housing Color: Natural; Color: Natural; Min Operating Temperature: -40°C; Max Operating Temperature: 105°C; Termination: Solder; Number of Rows: 2; Fastening Type: Ramp; Packaging: Bulk; Number of Contacts: 2; Orientation: Right Angle; Length: 5.4mm; Depth: 19.4mm; ComponentLink3URL: https://datasheet.ciiva.com/6814/039301100-sd-6814020.pdf?src-supplier=Digi-Key; ComponentLink3Description: https://datasheet.ciiva.com/6814/039301100-sd-6814020.pdf?src-supplier=Digi-Key; ComponentLink4URL: https://datasheet.ciiva.com/30130/183450039301020-pcb-headers-30130157.pdf?src-supplier=Onlinecomponents.com; ComponentLink4Description: https://datasheet.ciiva.com/30130/183450039301020-pcb-headers-30130157.pdf?src-supplier=Onlinecomponents.com; ComponentLink5URL: https://datasheet.ciiva.com/11747/0900766b805f2c40-11747493.pdf?src-supplier=RSComponents; ComponentLink5Description: https://datasheet.ciiva.com/11747/0900766b805f2c40-11747493.pdf?src-supplier=RSComponents
footprint CN_BL_0039301020 (CON PTH 2 PIN R/A)
pins: 1, 2

## CN_CWN-370-26-0000
designator CN?
CONN HEADER VERT 26POS 2.54MM; Manufacturer: CW Industries; Manufacturer Part Number: CWN-370-26-0000; Connector Type: Male Pin; Number of Positions: 26; Gender: Male; Pitch: 0.1inch; Supplier 1: Digi-Key; Supplier Part Number 1: CHW26G-ND; Stock 1: 281; Pricing 1: 1=4,63000, 10=4,44000, 100=3,70000, 500=3,14500, 1000=2,68250, 5000=2,40500 (USD); RoHS: Yes; Mount: Through Hole; Contact Plating: Gold; Color: Blue; Housing Color: Blue; Housing Material: Plastic; Termination: Wire Wrap; Package Quantity: 100; Number of Rows: 2; Packaging: Bulk; Number of Contacts: 26; Height: 17.3mm; Row Spacing: 0.1inch; Contact Mating Length: 0.24inch; Width: 7.62mm; Lead Free: Lead Free; ComponentLink1URL: https://datasheet.ciiva.com/712/cwn-300ordering-712324.pdf?src-supplier=Digi-Key; ComponentLink1Description: https://datasheet.ciiva.com/712/cwn-300ordering-712324.pdf?src-supplier=Digi-Key
footprint CN_CWN-370-26-0000 (CONN HEADER VERT 26POS 2.54MM)
part A pins: A1, A2, A3, A4, A5, A6, A7, A8, A9, A10, A11, A12, A13
part B pins: B1, B2, B3, B4, B5, B6, B7, B8, B9, B10, B11, B12, B13

## CN_DB9_PLUG
designator CN?, comment DB9
CONN D-SUB PLUG 9POS R/A SOLDER PTH; MPN: 5747840-4; Manufacturer Part Number: 57478404; Fabricante: TE Connectivity; Plating: Tin; Body Material: Metal; Current Rating: 6A; Number of Positions: 9; Voltage Rating: 125V; Number of Ports: 1; Mating Connector Lock: Yes (With); Preloaded: Yes; Gender: Male; PCB Mount Retention: With; Sealable: No (Without); PCB Mounting Orientation: Right Angle; Pitch: 2.74mm; PCB Thickness: 1.57mm; Contact Post Length: 3.17mm; Hole Diameter: 0.125inch; Approvals: UL,CSA; Value: DB9; FOOTPRINT: DB 9PIN PTH MACHO; ComponentLink1Description: LOJA; ComponentLink1URL: https://www.digikey.com/products/en?keywords=5747840-4; Supplier 1: Digi-Key; Supplier Part Number 1: A32092-ND; Manufacturer: TE Connectivity; Stock 1: 0; RoHS: Yes; Mount: Through Hole; Case/Package: Metal; Contact Material: Brass; Contact Plating: Gold,Tin; Color: Black; Number of Terminals: 9; Housing Material: Nylon; Housing Color: Black; Shell Material: Steel; Material: Metal; Contact Shape: Round; Body Plating: Tin; Min Operating Temperature: -55°C; Max Operating Temperature: 105°C; Termination: Solder; Orientation: Right Angle; Package Quantity: 130; Packaging: Tray; Number of Rows: 2; Connector Type: Plug; Number of Contacts: 9; PCB Mount Alignment: Yes (With); Mating Retention: Yes (With); Length: 30.81mm; Height: 12.55mm; Depth: 18.62mm; Width: 12.55mm; Radiation Hardening: No; Flammability Rating: UL94 V-0; REACH SVHC: No SVHC; ELV: Compliant; Lead Free: Lead Free; ComponentLink2URL: https://datasheet.ciiva.com/19471/853214-19471990.pdf?src-supplier=Jameco; ComponentLink2Description: https://datasheet.ciiva.com/19471/853214-19471990.pdf?src-supplier=Jameco; ComponentLink3URL: https://datasheet.ciiva.com/11742/0900766b801e6c11-11742845.pdf?src-supplier=RSComponents; ComponentLink3Description: https://datasheet.ciiva.com/11742/0900766b801e6c11-11742845.pdf?src-supplier=RSComponents; ComponentLink4URL: https://datasheet.ciiva.com/14106/04416301-14106877.pdf?src-supplier=Distrelec; ComponentLink4Description: https://datasheet.ciiva.com/14106/04416301-14106877.pdf?src-supplier=Distrelec; ComponentLink5URL: https://datasheet.ciiva.com/651/eng-cd-5747840-d-651817.pdf?src-supplier=Digi-Key; ComponentLink5Description: https://datasheet.ciiva.com/651/eng-cd-5747840-d-651817.pdf?src-supplier=Digi-Key; ComponentLink6URL: https://datasheet.ciiva.com/30072/eng-cs-82068-amplimite-right-angle-posted-conn-0108-30072683.pdf?src-supplier=Onlinecomponents.com; ComponentLink6Description: https://datasheet.ciiva.com/30072/eng-cs-82068-amplimite-right-angle-posted-conn-0108-30072683.pdf?src-supplier=Onlinecomponents.com; ComponentLink7URL: https://datasheet.ciiva.com/16912/70041642-16912934.pdf?src-supplier=Allied+Electronics; ComponentLink7Description: https://datasheet.ciiva.com/16912/70041642-16912934.pdf?src-supplier=Allied+Electronics; ComponentLink8URL: https://datasheet.ciiva.com/16663/eng-cs-82068-amplimite-right-angle-posted-conn-0412-16663464.pdf?src-supplier=Avnet+Europe; ComponentLink8Description: https://datasheet.ciiva.com/16663/eng-cs-82068-amplimite-right-angle-posted-conn-0412-16663464.pdf?src-supplier=Avnet+Europe; ComponentLink9URL: https://datasheet.ciiva.com/16468/eng-cs-82068-amplimite-right-angle-posted-conn-0412-16468604.pdf?src-supplier=Avnet+Asia; ComponentLink9Description: https://datasheet.ciiva.com/16468/eng-cs-82068-amplimite-right-angle-posted-conn-0412-16468604.pdf?src-supplier=Avnet+Asia; ComponentLink10URL: https://datasheet.ciiva.com/3106/eng-cs-82068-amplimite-right-angle-posted-conn-0412-3106702.pdf?src-supplier=Avnet; ComponentLink10Description: https://datasheet.ciiva.com/3106/eng-cs-82068-amplimite-right-angle-posted-conn-0412-3106702.pdf?src-supplier=Avnet
footprint CON_5747840-4 (9 Position D-Sub Plug, Male Pins Connector)
pins: 1, 2, 3, 4, 5, 6, 7, 8, 9
2 alternate drawings of the same symbol

## CN_HDR_0559350310
designator CN?
footprint CN_HDR_0559350310
pins: 1, 2, 3

## CN_HDR_0559350410
designator CN?  (value not drawn)
footprint CN_HDR_0559350410
pins: 1, 2, 3, 4

## CN_HDR_0559350910
designator CN?
footprint CN_HDR_0559350910
pins: 1, 2, 3, 4, 5, 6, 7, 8, 9

## CN_HDR_691382010002
designator CN?
footprint CN_HDR_691382010002
pins: 1, 2

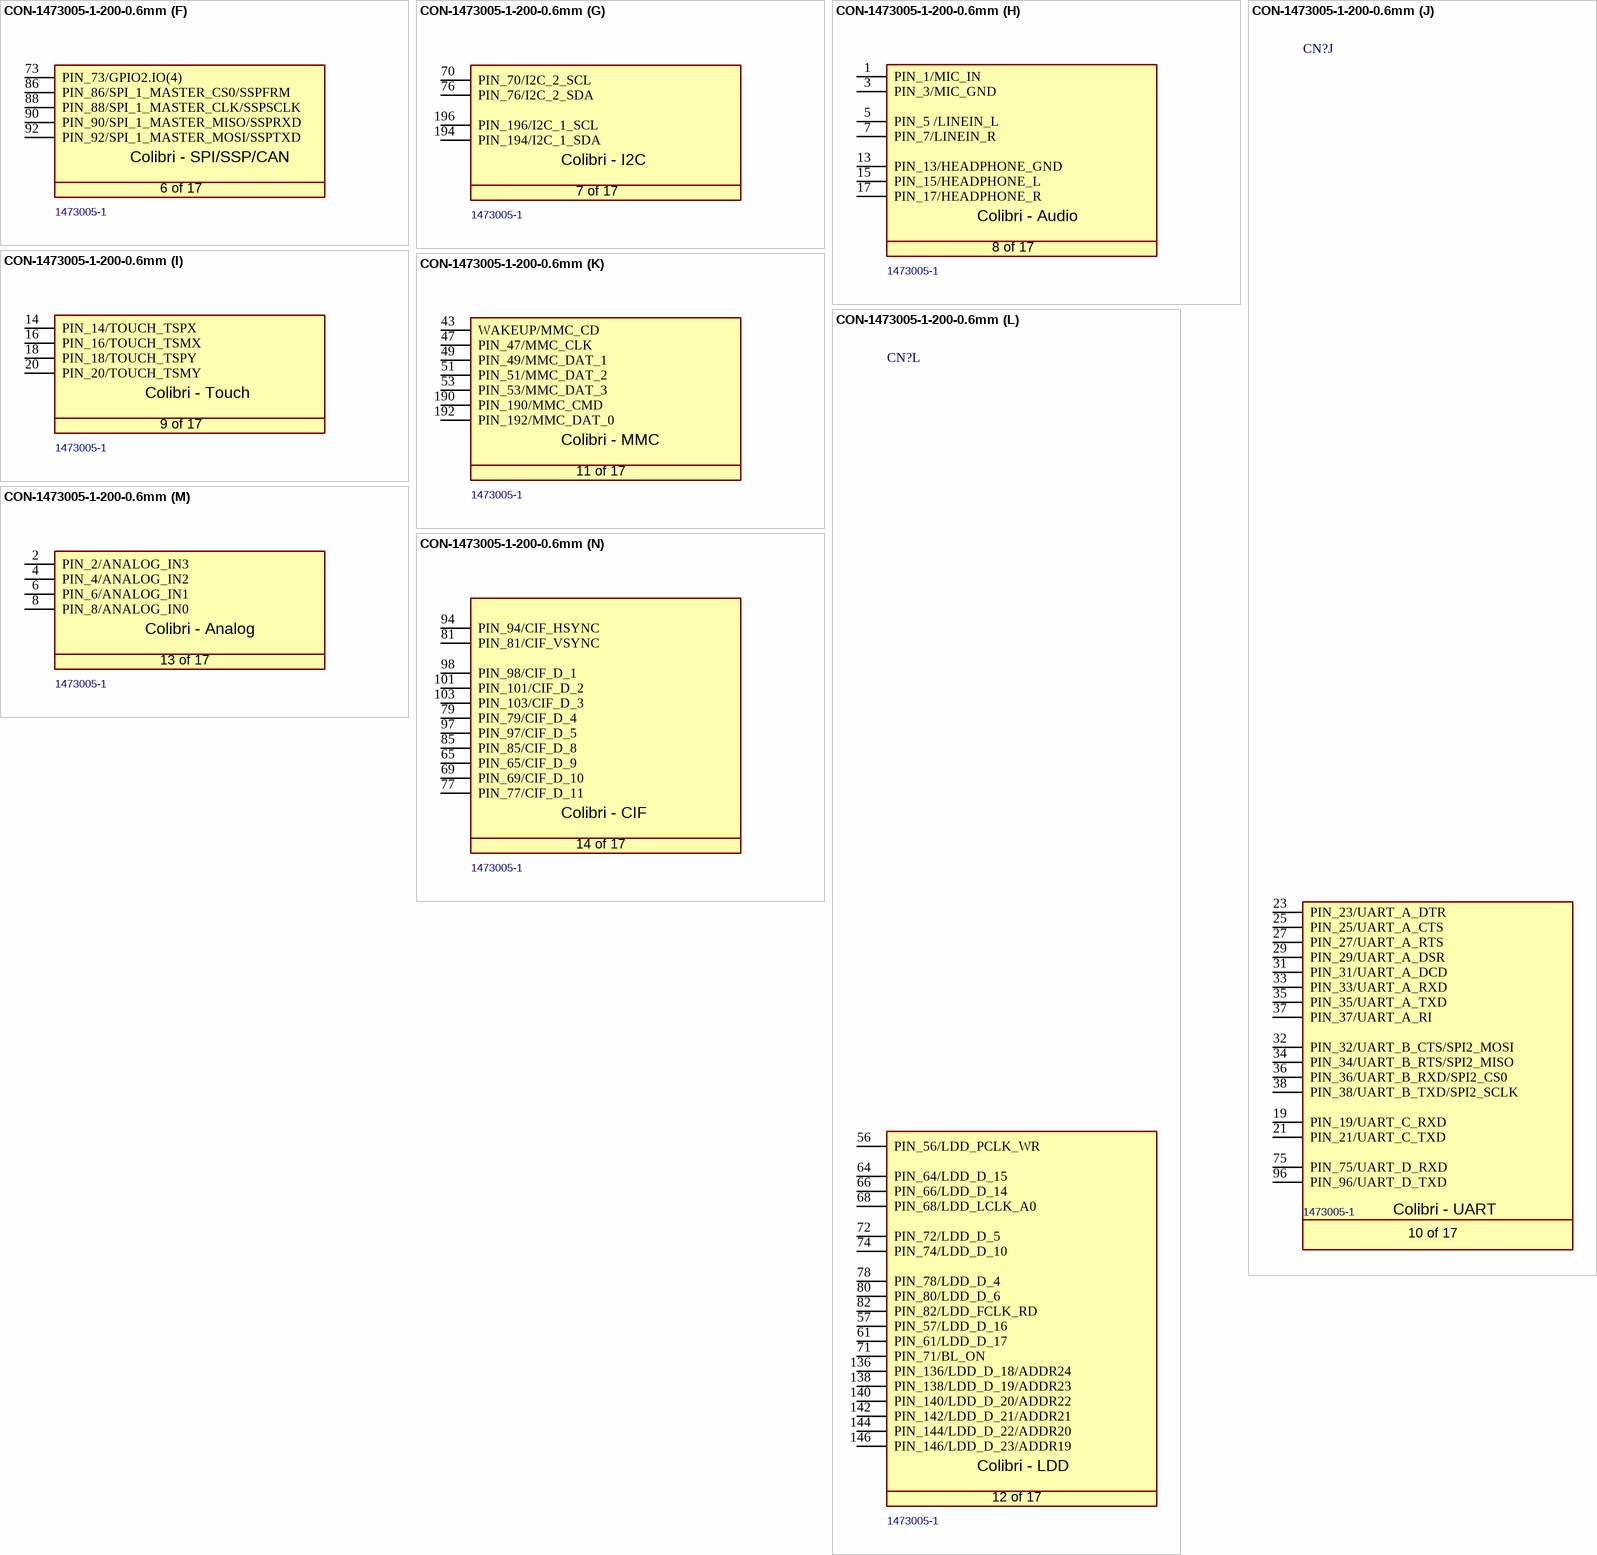
[diagram p1: symbol CON-1473005-1-200-0.6mm]

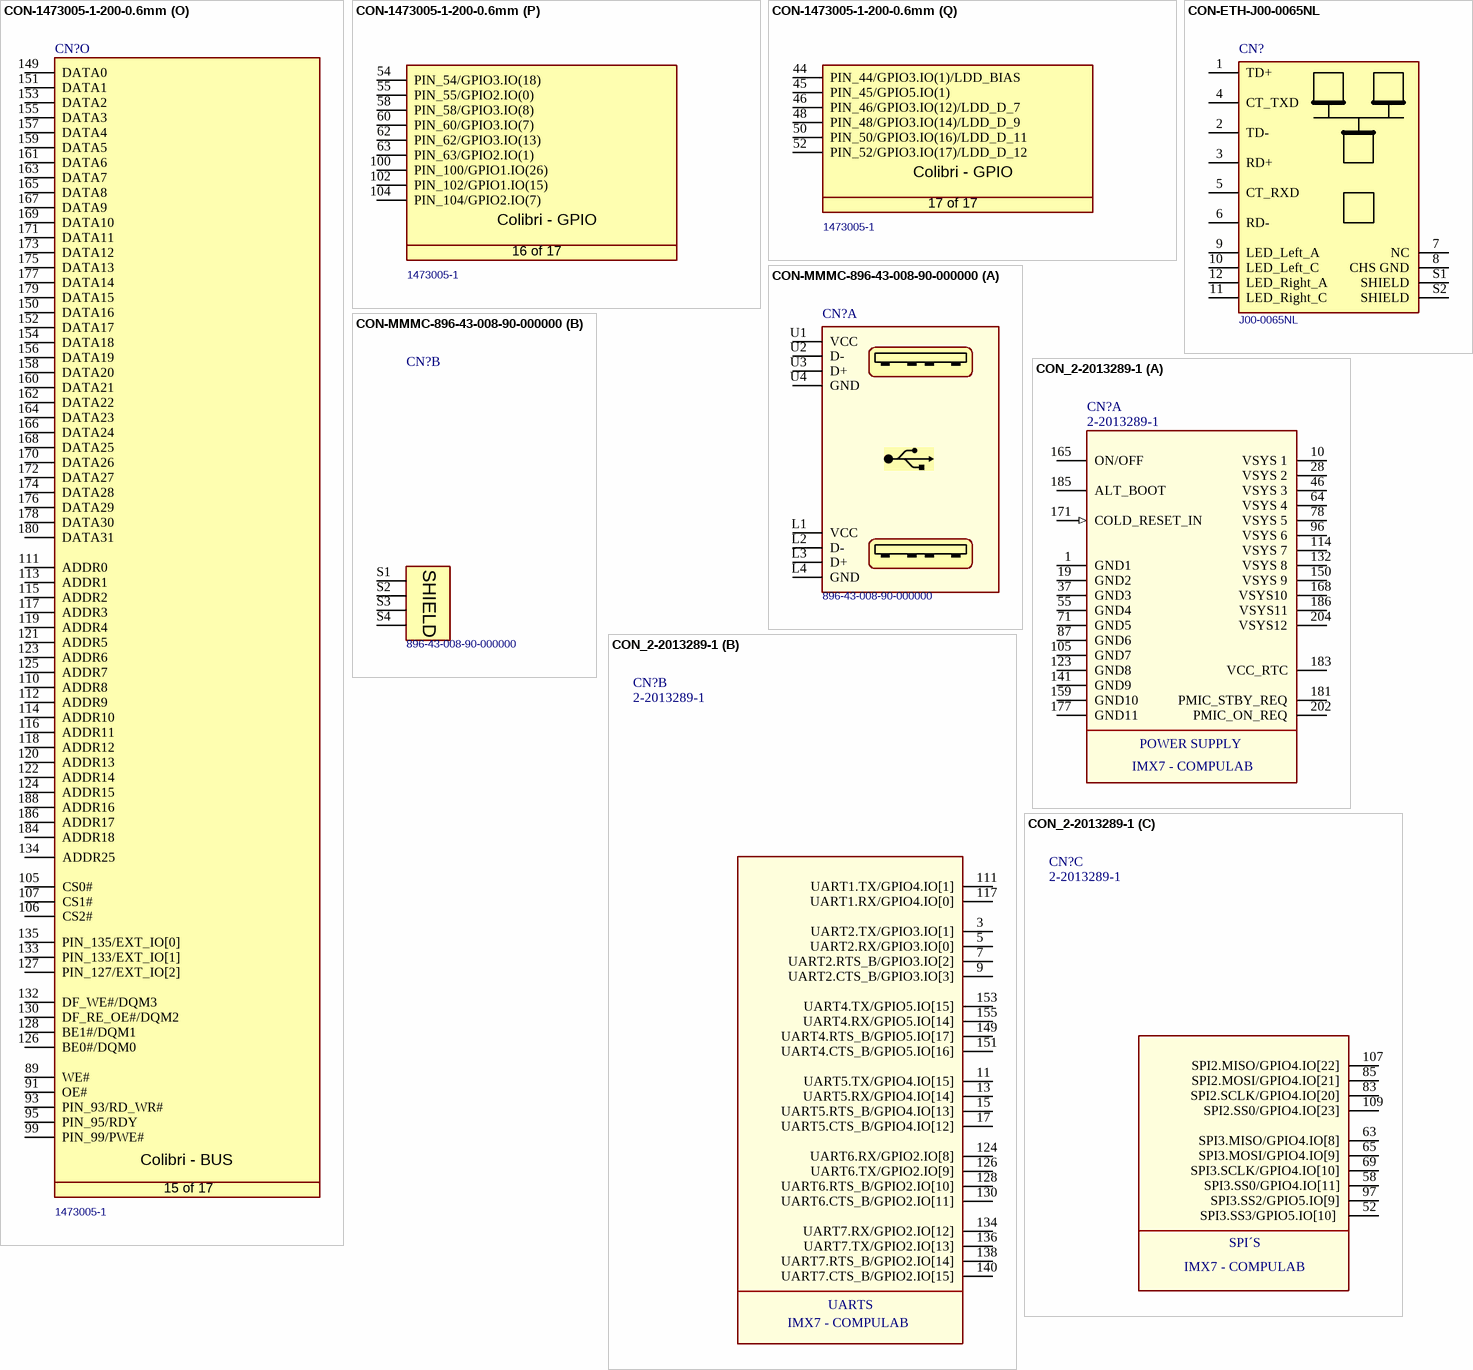
[diagram p2: symbols CON-1473005-1-200-0.6mm to CON_2-2013289-1]

## CON-1473005-1-200-0.6mm
designator CN?, comment MPN: 1473005-1  (hidden comment: CON-Tyco-1473005-1-200-0.6mm)
SODIMM Connector 200 pos; Manufacturer: TE Connectivity; Manufacturer Part Number: 14730051; Fabricante: Tyco; No. of ways: 200; Memory Type: DDR SDRAM; Voltage Rating: 2.5V; PCB Mount Retention: With; Gender: Female; Insulation Resistance: 250MR; Contact Current Rating: 500mA; Circuit Application: Power; Connector System: Cable-to-Board; Sealable: No (Without); Connector Type: Socket; Pitch: 0.024inch; Row Spacing: 0.244inch; Stack Height: 5.2mm; Value: *; Footprint: SO DIMM; ComponentLink1Description: LOJA; ComponentLink1URL: https://www.digikey.com/product-detail/en/te-connectivity-amp-connectors/1-1473005-1/A121565-ND/1890693; Supplier 1: Digi-Key; Supplier Part Number 1: A99605-ND; Stock 1: 0; RoHS: Yes; Mount: Surface Mount; Number of Pins: 200; Contact Material: Copper Alloy; Contact Plating: Gold; Housing Material: Thermoplastic; Insulation Material: Thermoplastic; Housing Color: Black; Min Operating Temperature: -67°C; Max Operating Temperature: 185°C; Number of Rows: 2; Number of Contacts: 200; Orientation: Right Angle; Termination: Solder; Packaging: Tray; Package Quantity: 20; Number of Positions: 200; Length: 71.5mm; Height: 5.2mm; Depth: 26mm; Radiation Hardening: No; ELV: Compliant; Flammability Rating: UL94 V-0; Lead Free: Lead Free; REACH SVHC: No SVHC; ComponentLink2URL: https://datasheet.ciiva.com/15171/getdatasheetpartid-93506-15171477.pdf?src-supplier=Verical; ComponentLink2Description: https://datasheet.ciiva.com/15171/getdatasheetpartid-93506-15171477.pdf?src-supplier=Verical; ComponentLink3URL: https://datasheet.ciiva.com/16314/eng-cd-1473005-j2-16314265.pdf?src-supplier=Future+Electronics; ComponentLink3Description: https://datasheet.ciiva.com/16314/eng-cd-1473005-j2-16314265.pdf?src-supplier=Future+Electronics; ComponentLink4URL: https://datasheet.ciiva.com/19460/898818-19460721.pdf?src-supplier=Jameco; ComponentLink4Description: https://datasheet.ciiva.com/19460/898818-19460721.pdf?src-supplier=Jameco; ComponentLink5URL: https://datasheet.ciiva.com/1105/582309-1105220.pdf?src-supplier=Element14; ComponentLink5Description: https://datasheet.ciiva.com/1105/582309-1105220.pdf?src-supplier=Element14; ComponentLink6URL: https://datasheet.ciiva.com/14156/04821302-14156310.pdf?src-supplier=Distrelec; ComponentLink6Description: https://datasheet.ciiva.com/14156/04821302-14156310.pdf?src-supplier=Distrelec; ComponentLink7URL: https://datasheet.ciiva.com/682/eng-cd-1473005-j2-682632.pdf?src-supplier=Digi-Key; ComponentLink7Description: https://datasheet.ciiva.com/682/eng-cd-1473005-j2-682632.pdf?src-supplier=Digi-Key; ComponentLink8URL: https://datasheet.ciiva.com/3136/eng-cd-1473005-j-3136059.pdf?src-supplier=Avnet; ComponentLink8Description: https://datasheet.ciiva.com/3136/eng-cd-1473005-j-3136059.pdf?src-supplier=Avnet; ComponentLink9URL: https://datasheet.ciiva.com/16469/eng-cd-1473005-j-16469341.pdf?src-supplier=Avnet+Asia; ComponentLink9Description: https://datasheet.ciiva.com/16469/eng-cd-1473005-j-16469341.pdf?src-supplier=Avnet+Asia
footprint T_Tyco_1473005-1 (SODIMM Connector)
part A pins: 9 PIN_9/VSS_AUDIO, 10 VDD_ANALOG, 11 PIN_11/VSS_AUDIO, 12 VDD_ANALOG, 39 GND (power), 40 VCC_BATT (power), 41 GND (power), 42 3V3 (power), 83 GND (power), 84 3V3 (power), 108 3V3, 109 GND (power), 147 GND (power), 148 3V3, 181 GND (power), 182 3V3 (power), 197 GND (power), 198 3V3 (power), 199 GND (power), 200 3V3 (power)
part B pins: 183 ETH_LINK_ACT, 185 ETH_SPEED, 187 ETH_TX0-, 189 ETH_TX0+, 191 ETH_GND, 193 ETH_RXI-, 195 ETH_RXI+
part C pins: 129 PIN_129/USB_P_EN, 131 PIN_131/USB_OC, 137 PIN_137/USBC_CABLEDET, 139 USBH_P, 141 USBH_N, 143 USBC_P, 145 USBC_N
part D pins: 22 VDD_FAULT#, 24 BATT_FAULT#, 26 RESET_EXT#, 87 RESET_OUT#
part E pins: 28 PIN_28/PWM_B, 30 PIN_30/PWM_C, 59 PIN_59/PWM_A, 67 PIN_67/PWM_D
part F pins: 73 PIN_73/GPIO2.IO(4), 86 PIN_86/SPI_1_MASTER_CS0/SSPFRM, 88 PIN_88/SPI_1_MASTER_CLK/SSPSCLK, 90 PIN_90/SPI_1_MASTER_MISO/SSPRXD, 92 PIN_92/SPI_1_MASTER_MOSI/SSPTXD
part G pins: 70 PIN_70/I2C_2_SCL, 76 PIN_76/I2C_2_SDA, 194 PIN_194/I2C_1_SDA, 196 PIN_196/I2C_1_SCL
part H pins: 1 PIN_1/MIC_IN, 3 PIN_3/MIC_GND, 5 PIN_5 /LINEIN_L, 7 PIN_7/LINEIN_R, 13 PIN_13/HEADPHONE_GND, 15 PIN_15/HEADPHONE_L, 17 PIN_17/HEADPHONE_R
part I pins: 14 PIN_14/TOUCH_TSPX, 16 PIN_16/TOUCH_TSMX, 18 PIN_18/TOUCH_TSPY, 20 PIN_20/TOUCH_TSMY
part J pins: 19 PIN_19/UART_C_RXD, 21 PIN_21/UART_C_TXD, 23 PIN_23/UART_A_DTR, 25 PIN_25/UART_A_CTS, 27 PIN_27/UART_A_RTS, 29 PIN_29/UART_A_DSR, 31 PIN_31/UART_A_DCD, 32 PIN_32/UART_B_CTS/SPI2_MOSI, 33 PIN_33/UART_A_RXD, 34 PIN_34/UART_B_RTS/SPI2_MISO, 35 PIN_35/UART_A_TXD, 36 PIN_36/UART_B_RXD/SPI2_CS0, 37 PIN_37/UART_A_RI, 38 PIN_38/UART_B_TXD/SPI2_SCLK, 75 PIN_75/UART_D_RXD, 96 PIN_96/UART_D_TXD
part K pins: 43 WAKEUP/MMC_CD, 47 PIN_47/MMC_CLK, 49 PIN_49/MMC_DAT_1, 51 PIN_51/MMC_DAT_2, 53 PIN_53/MMC_DAT_3, 190 PIN_190/MMC_CMD, 192 PIN_192/MMC_DAT_0
part L pins: 56 PIN_56/LDD_PCLK_WR, 57 PIN_57/LDD_D_16, 61 PIN_61/LDD_D_17, 64 PIN_64/LDD_D_15, 66 PIN_66/LDD_D_14, 68 PIN_68/LDD_LCLK_A0, 71 PIN_71/BL_ON, 72 PIN_72/LDD_D_5, 74 PIN_74/LDD_D_10, 78 PIN_78/LDD_D_4, 80 PIN_80/LDD_D_6, 82 PIN_82/LDD_FCLK_RD, 136 PIN_136/LDD_D_18/ADDR24, 138 PIN_138/LDD_D_19/ADDR23, 140 PIN_140/LDD_D_20/ADDR22, 142 PIN_142/LDD_D_21/ADDR21, 144 PIN_144/LDD_D_22/ADDR20, 146 PIN_146/LDD_D_23/ADDR19
part M pins: 2 PIN_2/ANALOG_IN3, 4 PIN_4/ANALOG_IN2, 6 PIN_6/ANALOG_IN1, 8 PIN_8/ANALOG_IN0
part N pins: 65 PIN_65/CIF_D_9, 69 PIN_69/CIF_D_10, 77 PIN_77/CIF_D_11, 79 PIN_79/CIF_D_4, 81 PIN_81/CIF_VSYNC, 85 PIN_85/CIF_D_8, 94 PIN_94/CIF_HSYNC, 97 PIN_97/CIF_D_5, 98 PIN_98/CIF_D_1, 101 PIN_101/CIF_D_2, 103 PIN_103/CIF_D_3
part O pins: 89 WE#, 91 OE#, 93 PIN_93/RD_WR#, 95 PIN_95/RDY, 99 PIN_99/PWE#, 105 CS0#, 106 CS2#, 107 CS1#, 110 ADDR8, 111 ADDR0, 112 ADDR9, 113 ADDR1, 114 ADDR10, 115 ADDR2, 116 ADDR11, 117 ADDR3, 118 ADDR12, 119 ADDR4, 120 ADDR13, 121 ADDR5, 122 ADDR14, 123 ADDR6, 124 ADDR15, 125 ADDR7, 126 BE0#/DQM0, 127 PIN_127/EXT_IO[2], 128 BE1#/DQM1, 130 DF_RE_OE#/DQM2, 132 DF_WE#/DQM3, 133 PIN_133/EXT_IO[1], 134 ADDR25, 135 PIN_135/EXT_IO[0], 149 DATA0, 150 DATA16, 151 DATA1, 152 DATA17, 153 DATA2, 154 DATA18, 155 DATA3, 156 DATA19, 157 DATA4, 158 DATA20, 159 DATA5, 160 DATA21, 161 DATA6, 162 DATA22, 163 DATA7, 164 DATA23, 165 DATA8, 166 DATA24, 167 DATA9, 168 DATA25, 169 DATA10, 170 DATA26, 171 DATA11, 172 DATA27, 173 DATA12, 174 DATA28, 175 DATA13, 176 DATA29, 177 DATA14, 178 DATA30, 179 DATA15, 180 DATA31, 184 ADDR18, 186 ADDR17, 188 ADDR16
part P pins: 54 PIN_54/GPIO3.IO(18), 55 PIN_55/GPIO2.IO(0), 58 PIN_58/GPIO3.IO(8), 60 PIN_60/GPIO3.IO(7), 62 PIN_62/GPIO3.IO(13), 63 PIN_63/GPIO2.IO(1), 100 PIN_100/GPIO1.IO(26), 102 PIN_102/GPIO1.IO(15), 104 PIN_104/GPIO2.IO(7)
part Q pins: 44 PIN_44/GPIO3.IO(1)/LDD_BIAS, 45 PIN_45/GPIO5.IO(1), 46 PIN_46/GPIO3.IO(12)/LDD_D_7, 48 PIN_48/GPIO3.IO(14)/LDD_D_9, 50 PIN_50/GPIO3.IO(16)/LDD_D_11, 52 PIN_52/GPIO3.IO(17)/LDD_D_12
part A text: Colibri - Power Supply; 1 of 17
part B text: Colibri - Ethernet; 2 of 17
part C text: Colibri - USB; 3 of 17
part D text: Colibri - Reset; 4 of 17
part E text: Colibri - PWM; 5 of 17
part F text: Colibri - SPI/SSP/CAN; 6 of 17
part G text: Colibri - I2C; 7 of 17
part H text: Colibri - Audio; 8 of 17
part I text: Colibri - Touch; 9 of 17
part J text: Colibri - UART; 10 of 17
part K text: Colibri - MMC; 11 of 17
part L text: Colibri - LDD; 12 of 17
part M text: Colibri - Analog; 13 of 17
part N text: Colibri - CIF; 14 of 17
part O text: Colibri - BUS; 15 of 17
part P text: Colibri - GPIO; 16 of 17
part Q text: Colibri - GPIO; 17 of 17